# Altium schematic symbol library ardunio.SchLib: 2 symbols
Pins are listed as number, name and electrical type; pins without a type are passive.

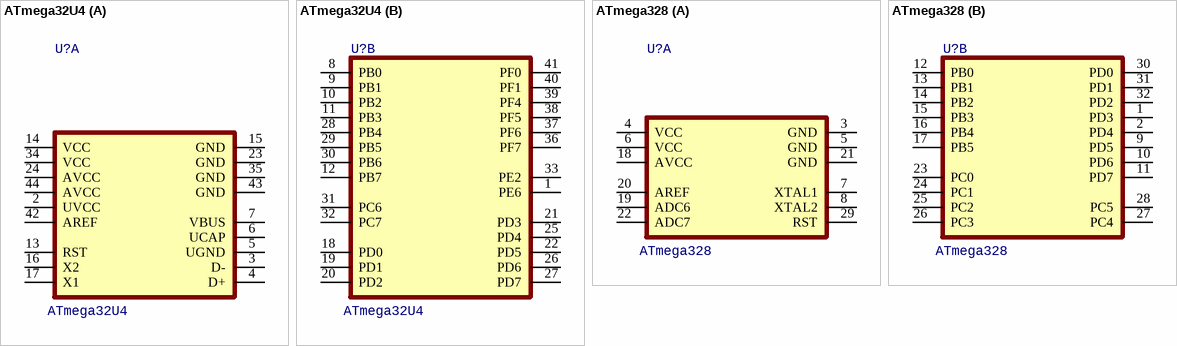
[diagram p0: symbols ATmega32U4 to ATmega328]

## ATmega32U4
designator U?
MCU
footprint _QFN_P0.5_44
part A pins: 2 UVCC, 3 D-, 4 D+, 5 UGND, 6 UCAP, 7 VBUS, 13 RST, 14 VCC, 15 GND, 16 X2, 17 X1, 23 GND, 24 AVCC, 34 VCC, 35 GND, 42 AREF, 43 GND, 44 AVCC
part B pins: 1 PE6, 8 PB0, 9 PB1, 10 PB2, 11 PB3, 12 PB7, 18 PD0, 19 PD1, 20 PD2, 21 PD3, 22 PD5, 25 PD4, 26 PD6, 27 PD7, 28 PB4, 29 PB5, 30 PB6, 31 PC6, 32 PC7, 33 PE2, 36 PF7, 37 PF6, 38 PF5, 39 PF4, 40 PF1, 41 PF0

## ATmega328
designator U?
MCU
footprint _LQFP_P0.8_32
part A pins: 3 GND, 4 VCC, 5 GND, 6 VCC, 7 XTAL1, 8 XTAL2, 18 AVCC, 19 ADC6, 20 AREF, 21 GND, 22 ADC7, 29 RST
part B pins: 1 PD3, 2 PD4, 9 PD5, 10 PD6, 11 PD7, 12 PB0, 13 PB1, 14 PB2, 15 PB3, 16 PB4, 17 PB5, 23 PC0, 24 PC1, 25 PC2, 26 PC3, 27 PC4, 28 PC5, 30 PD0, 31 PD1, 32 PD2